# Altium footprint library 1206С.PcbLib: 1 footprints
Each footprint in its own frame and in the unit in brackets; x right, y up, seen from the top. Pads: shape width x height; smd on the part's side, far side on the other; paste and mask are expansions set on the pad; w line width, h text height; cw(c..) or ccw(c..) is an arc to the next point about the centre after c.
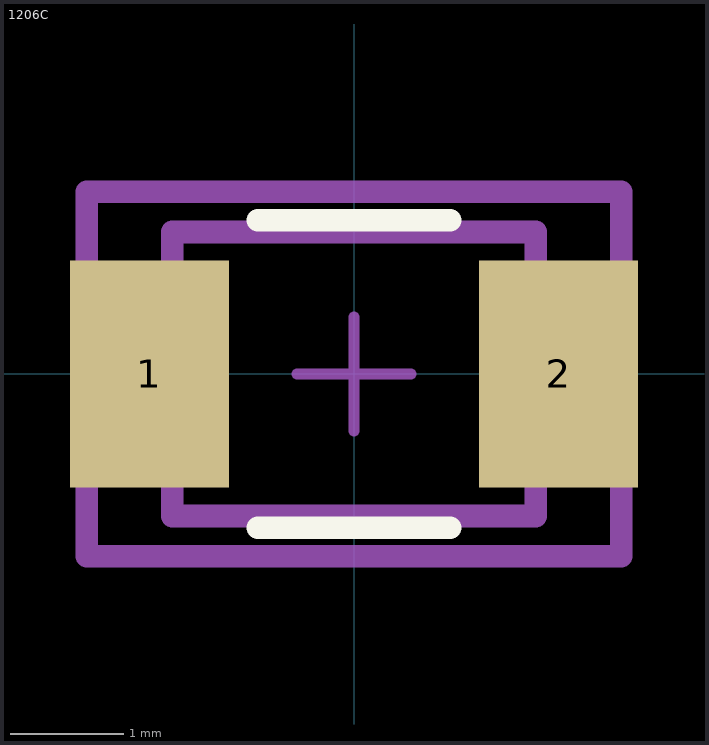
[diagram p0: the footprint, top view; thin cyan lines are the x and y axes]

## 1206С [mm]
pads (2):
  rect 1.4x2 smd paste+0 mask+0: 1(-1.8,0) 2(1.8,0)
Top Overlay:
  lines w0.2: -0.848,-1.353 0.848,-1.353 ; -0.848,1.353 0.848,1.353
Mechanical 5:
  lines w0.2: -2.352,-1.603 -2.352,1.603 2.352,1.603 2.352,-1.603 -2.352,-1.603
  text ".Designator" at 0,0.188 h1
Mechanical 13:
  lines w0.2: -1.6,-1.25 -1.6,1.25 1.6,1.25 1.6,-1.25 -1.6,-1.25
Mechanical 15:
  lines w0.2: -2.352,-1.603 -2.352,1.603 2.352,1.603 2.352,-1.603 -2.352,-1.603
Mechanical 16:
  lines w0.1: -0.5,0 0.5,0 ; 0,-0.5 0,0.5
3D body "C1206.stp": height 1.59, standoff -0.01, extent -1.6,-0.742 1.6,0.858